# Altium footprint library rookieboard_footprints.PcbLib: 22 footprints (part 1 of 2)
Each footprint in its own frame and in the unit in brackets; x right, y up, seen from the top. Pads: shape width x height; smd on the part's side, far side on the other; paste and mask are expansions set on the pad; w line width, h text height; cw(c..) or ccw(c..) is an arc to the next point about the centre after c.
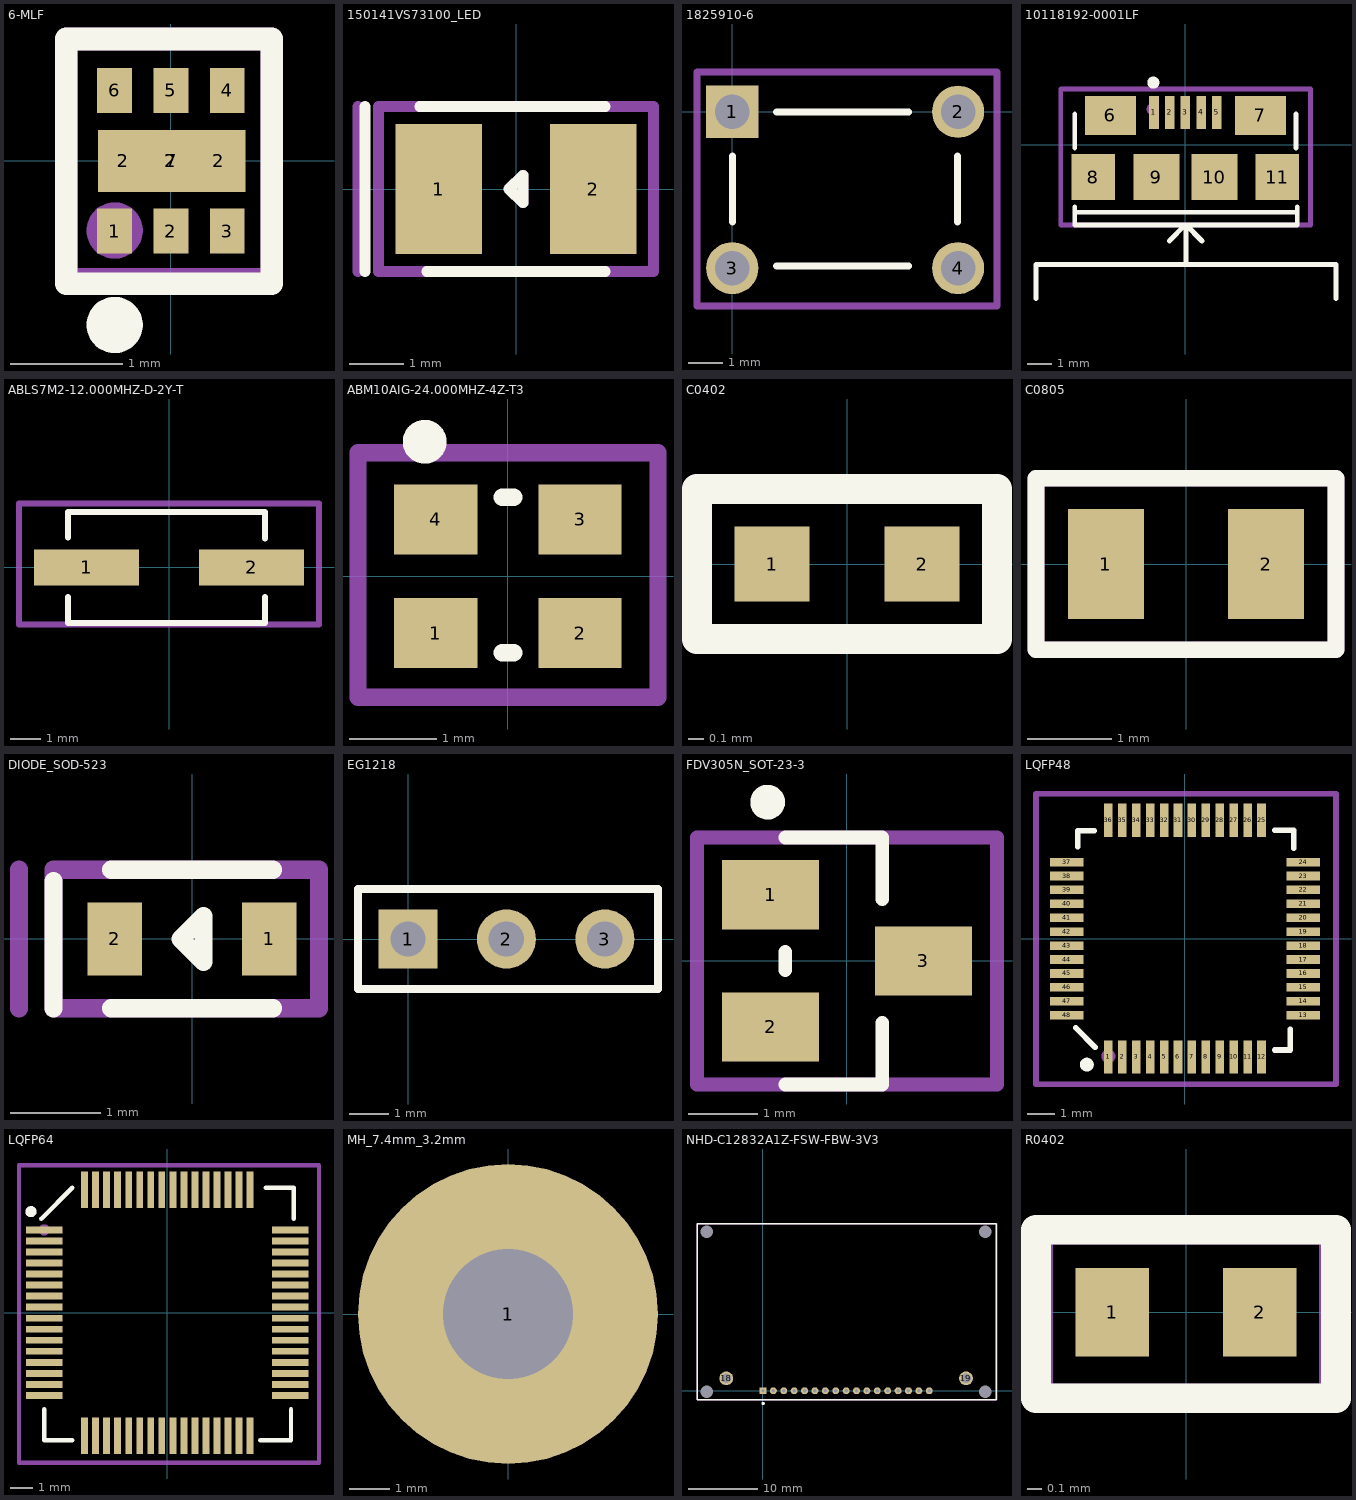
[diagram p0: the footprints below, top view; thin cyan lines are the x and y axes]

## 6-MLF [mm]
pads (10):
  rect 0.31x0.4 smd mask+0.01: 1(-0.5,-0.625) 2(0,-0.625) 4(0.5,0.625) 5(0,0.625) 6(-0.5,0.625)
  rect 0.4x0.5 on Top Paste: 2(-0.425,0) 2(0,0) 2(0.425,0)
  rect 0.31x0.4 smd paste+0 mask+0.01: 3(0.5,-0.625)
  rect 1.31x0.55 smd paste-40 mask+0.01: 7(0.008,0)
Top Overlay:
  circle w0.25: c-0.5,-1.458 r0.125
  lines w0.2: -0.932,-1.092 0.897,-1.092 0.897,1.082 -0.932,1.082 -0.932,-1.092
Mechanical 29:
  circle w0.25: c-0.5,-0.62 r0.125
  lines w0.2: -0.932,1.057 -0.932,-1.051 0.897,-1.051 0.897,1.082 -0.932,1.082
  text ".Designator" at -0.525,-0.061 h0.5

## 150141VS73100_LED [mm]
pads (2):
  rect 1.6x2.4 smd: 1(-1.425,0) 2(1.425,0)
Top Overlay:
  lines w0.2: -2.794,-1.524 -2.794,1.524 ; -1.778,1.524 1.651,1.524 ; -1.651,-1.524 1.651,-1.524 ; -0.127,0 0.127,0.254 0.127,-0.254 -0.127,0
Mechanical 29:
  lines w0.2: -2.921,-1.524 -2.921,1.524 ; -2.54,-1.524 -2.54,1.524 2.54,1.524 2.54,-1.524 -2.54,-1.524 ; -0.127,0 0.127,0.254 0.127,-0.254 -0.127,0
  text ".Designator" at -1.651,-0.508 h1.52

## 1825910-6 [mm]
pads (4):
  rect 1.5x1.5 hole 0.99: 1(0,0)
  round 1.5 hole 0.99: 2(6.5,0) 3(0,-4.5) 4(6.5,-4.5)
Top Overlay:
  lines w0.2: 0,-3.175 0,-1.27 ; 1.27,-4.445 5.08,-4.445 ; 1.27,0 5.08,0 ; 6.477,-3.175 6.477,-1.27
Mechanical 29:
  circle w0.25: c0,0 r0.125
  lines w0.2: -1.016,-5.588 7.62,-5.588 7.62,1.143 -1.016,1.143 -1.016,0.889 -1.016,-5.588
  text ".Designator" at 1.905,-2.921 h1.52

## 10118192-0001LF [mm]
pads (11):
  rect 0.4x1.35 smd mask+0.05: 1(-1.3,1.338) 2(-0.65,1.338) 3(0,1.338) 4(0.65,1.338) 5(1.3,1.338)
  rect 2.1x1.6 smd: 6(-3.1,1.213) 7(3.1,1.213)
  rect 1.8x1.9 smd: 8(-3.8,-1.337) 11(3.8,-1.337)
  rect 1.9x1.9 smd: 9(-1.2,-1.337) 10(1.2,-1.337)
Top Overlay:
  circle w0.25: c-1.325,2.572 r0.125
  lines w0.2: -6.175,-6.35 -6.175,-4.95 0.025,-4.95 ; -4.575,-2.562 -4.575,-2.788 ; -4.575,-0.125 -4.575,1.275 ; -0.662,-3.975 0,-3.313 ; 0.687,-3.975 0.025,-3.313 0.025,-4.95 ; 4.575,-0.125 4.575,1.275 ; 4.625,-2.562 4.625,-2.788 ; 6.225,-6.35 6.225,-4.95 0.025,-4.95 ; -4.575,-2.788 -4.575,-3.312 -1.1,-3.312 4.625,-3.312 4.625,-2.788 ; -4.575,-2.788 4.625,-2.788
Mechanical 29:
  circle w0.25: c-1.35,1.475 r0.125
  lines w0.2: -5.15,-3.312 -5.15,2.3 5.175,2.3 5.175,-3.312 -5.15,-3.312
  text ".Designator" at -1.375,-0.85 h1.52

## ABLS7M2-12.000MHZ-D-2Y-T [mm]
pads (2):
  rect 3.5x1.2 smd: 1(-2.75,0) 2(2.75,0)
Top Overlay:
  lines w0.2: -3.375,-0.991 -3.375,-1.85 3.2,-1.85 3.2,-0.991 ; -3.375,0.991 -3.375,1.85 3.2,1.85 3.2,0.965
Mechanical 29:
  lines w0.2: 5,2.125 5,-1.9 -5,-1.9 -5,2.125 5,2.125 ; 5,2.125 5,2.125
  text ".Designator" at -1.425,-0.45 h1.52

## ABM10AIG-24.000MHZ-4Z-T3 [mm]
pads (4):
  rect 0.95x0.8 smd: 1(-0.825,-0.65) 2(0.825,-0.65) 3(0.825,0.65) 4(-0.825,0.65)
Top Overlay:
  circle w0.25: c-0.952,1.539 r0.125
  lines w0.2: -0.063,-0.874 0.064,-0.874 ; -0.063,0.904 0.064,0.904
Mechanical 29:
  circle w0.25: c-0.827,0.65 r0.125
  lines w0.2: -1.714,-1.382 1.715,-1.382 1.715,1.412 -1.714,1.412 -1.714,-1.382
  text ".Designator" at -0.952,-0.747 h1.2

## C0402 [mm]
pads (2):
  rect 0.5x0.5 smd: 1(-0.5,0) 2(0.5,0)
Top Overlay:
  lines w0.2: -1,-0.5 1,-0.5 1,0.5 -1,0.5 -1,-0.5
Mechanical 29:
  lines w0.2: -1,-0.5 1,-0.5 1,0.5 -1,0.5 -1,-0.5
  text ".Designator" at -0.6,-0.3 h0.52

## C0805 [mm]
pads (2):
  rect 0.9x1.3 smd: 1(-0.95,0) 2(0.95,0)
Top Overlay:
  lines w0.2: -1.778,-1.016 -1.778,1.016 1.778,1.016 1.778,-1.016 -1.778,-1.016
Mechanical 29:
  lines w0.2: -1.778,-1.016 -1.778,1.016 1.778,1.016 1.778,-1.016 -1.778,-1.016
  text ".Designator" at -0.508,-0.254 h0.6

## DIODE_SOD-523 [mm]
pads (2):
  rect 0.6x0.8 smd: 1(0.85,0) 2(-0.85,0)
Top Overlay:
  lines w0.2: -1.524,-0.762 -1.524,0.635 ; -0.889,-0.762 0.889,-0.762 ; -0.889,0.762 0.889,0.762 ; -0.127,0 0.127,0.254 0.127,-0.254 -0.127,0
Mechanical 29:
  lines w0.2: -1.905,-0.762 -1.905,0.762 ; -1.524,-0.762 1.397,-0.762 1.397,0.762 -1.524,0.762 -1.524,-0.762
  text ".Designator" at -0.635,-0.254 h0.5

## EG1218 [mm]
pads (3):
  rect 1.5x1.5 hole 0.9: 1(0,0)
  round 1.5 hole 0.9: 2(2.5,0) 3(5,0)
Top Overlay:
  lines w0.2: -1.27,-1.27 -1.27,1.27 6.35,1.27 6.35,-1.27 -1.27,-1.27
Mechanical 29:
  circle w0.25: c-0.065,0.015 r0.125
  lines w0.2: -1.27,-1.27 6.35,-1.27 6.35,1.27 -1.27,1.27 -1.27,-1.27
  text ".Designator" at 1.397,-0.508 h1.2

## FDV305N_SOT-23-3 [mm]
pads (3):
  rect 1.4x1 smd: 1(-1.1,0.95) 2(-1.1,-0.95) 3(1.1,0)
Top Overlay:
  circle w0.25: c-1.143,2.286 r0.125
  lines w0.2: -0.889,-1.778 0.508,-1.778 0.508,-0.889 ; -0.889,-0.127 -0.889,0.127 ; -0.889,1.778 0.508,1.778 0.508,0.889
Mechanical 29:
  circle w0.25: c-1.143,1.016 r0.125
  lines w0.2: -2.159,-1.778 -2.159,1.778 2.159,1.778 2.159,-1.778 -2.159,-1.778
  text ".Designator" at -0.381,-0.254 h0.7

## LQFP48 [mm]
pads (48):
  rect 0.31x1.2 smd mask+0.03: 1(-2.75,-4.25) 2(-2.25,-4.25) 3(-1.75,-4.25) 4(-1.25,-4.25) 5(-0.75,-4.25) 6(-0.25,-4.25) 7(0.25,-4.25) 8(0.75,-4.25) 9(1.25,-4.25) 10(1.75,-4.25) 11(2.25,-4.25) 12(2.75,-4.25) 25(2.75,4.25) 26(2.25,4.25) 27(1.75,4.25) 28(1.25,4.25) 29(0.75,4.25) 30(0.25,4.25) 31(-0.25,4.25) 32(-0.75,4.25) 33(-1.25,4.25) 34(-1.75,4.25) 35(-2.25,4.25) 36(-2.75,4.25)
  rect 1.2x0.31 smd mask+0.03: 13(4.25,-2.75) 14(4.25,-2.25) 15(4.25,-1.75) 16(4.25,-1.25) 17(4.25,-0.75) 18(4.25,-0.25) 19(4.25,0.25) 20(4.25,0.75) 21(4.25,1.25) 22(4.25,1.75) 23(4.25,2.25) 24(4.25,2.75) 37(-4.25,2.75) 38(-4.25,2.25) 39(-4.25,1.75) 40(-4.25,1.25) 41(-4.25,0.75) 42(-4.25,0.25) 43(-4.25,-0.25) 44(-4.25,-0.75) 45(-4.25,-1.25) 46(-4.25,-1.75) 47(-4.25,-2.25) 48(-4.25,-2.75)
Top Overlay:
  circle w0.25: c-3.525,-4.525 r0.125
  lines w0.2: -3.918,-3.207 -3.226,-3.899 ; -3.85,3.302 -3.85,3.875 -3.251,3.875 ; 3.226,-4 3.775,-4 3.775,-3.251 ; 3.226,3.9 3.9,3.9 3.9,3.251
Mechanical 29:
  circle w0.25: c-2.75,-4.225 r0.125
  lines w0.2: -5.35,5.175 -5.35,-5.225 5.425,-5.225 ; -5.35,5.2 5.425,5.2 5.425,-5.225 ; 5.425,-5.225 5.425,-5.225
  text ".Designator" at -1.825,-0.775 h1.5

## LQFP64 [mm]
pads (64):
  rect 1.65x0.31 smd mask+0.03: 1(-5.575,3.75) 2(-5.575,3.25) 3(-5.575,2.75) 4(-5.575,2.25) 5(-5.575,1.75) 6(-5.575,1.25) 7(-5.575,0.75) 8(-5.575,0.25) 9(-5.575,-0.25) 10(-5.575,-0.75) 11(-5.575,-1.25) 12(-5.575,-1.75) 13(-5.575,-2.25) 14(-5.575,-2.75) 15(-5.575,-3.25) 16(-5.575,-3.75) 33(5.575,-3.75) 34(5.575,-3.25) 35(5.575,-2.75) 36(5.575,-2.25) 37(5.575,-1.75) 38(5.575,-1.25) 39(5.575,-0.75) 40(5.575,-0.25) 41(5.575,0.25) 42(5.575,0.75) 43(5.575,1.25) 44(5.575,1.75) 45(5.575,2.25) 46(5.575,2.75) 47(5.575,3.25) 48(5.575,3.75)
  rect 0.31x1.65 smd mask+0.03: 17(-3.75,-5.575) 18(-3.25,-5.575) 19(-2.75,-5.575) 20(-2.25,-5.575) 21(-1.75,-5.575) 22(-1.25,-5.575) 23(-0.75,-5.575) 24(-0.25,-5.575) 25(0.25,-5.575) 26(0.75,-5.575) 27(1.25,-5.575) 28(1.75,-5.575) 29(2.25,-5.575) 30(2.75,-5.575) 31(3.25,-5.575) 32(3.75,-5.575) 49(3.75,5.575) 50(3.25,5.575) 51(2.75,5.575) 52(2.25,5.575) 53(1.75,5.575) 54(1.25,5.575) 55(0.75,5.575) 56(0.25,5.575) 57(-0.25,5.575) 58(-0.75,5.575) 59(-1.25,5.575) 60(-1.75,5.575) 61(-2.25,5.575) 62(-2.75,5.575) 63(-3.25,5.575) 64(-3.75,5.575)
Top Overlay:
  circle w0.25: c-6.175,4.575 r0.125
  lines w0.2: -5.702,4.258 -4.305,5.655 ; -5.575,-4.378 -5.575,-5.775 -4.305,-5.775 ; 4.204,-5.775 5.601,-5.775 5.601,-4.378 ; 4.458,5.655 5.728,5.655 5.728,4.258
Mechanical 29:
  circle w0.25: c-5.575,3.75 r0.125
  lines w0.2: -6.718,-6.791 6.871,-6.791 6.871,6.671 -6.718,6.671 -6.718,-6.791
  text ".Designator" at -1.765,-0.441 h1.52

## MH_7.4mm_3.2mm [mm]
pads (1):
  round 7.4 hole 3.2: 1(0,0)

## NHD-C12832A1Z-FSW-FBW-3V3 [mm]
pads (23):
  rect 1x1 hole 0.5: 1(0,0)
  round 1 hole 0.5: 2(1.5,0) 3(3,0) 4(4.5,0) 5(6,0) 6(7.5,0) 7(9,0) 8(10.5,0) 9(12,0) 10(13.5,0) 11(15,0) 12(16.5,0) 13(18,0) 14(19.5,0) 15(21,0) 16(22.5,0) 17(24,0)
  round 2 hole 1.4: 18(-5.3,1.8) 19(29.3,1.8)
  round 0 hole 1.8 unplated: 20(-8.1,-0.15) 20(-8.1,22.95) 20(32.1,-0.15) 20(32.1,22.95)
Top Overlay:
  circle w0.25: c0.008,-1.839 r0.125
  lines w0.2: -9.525,-1.27 -9.525,24.13 -8.89,24.13 33.655,24.13 33.655,-1.27 -9.525,-1.27
Mechanical 29:
  circle w0.25: c0,0 r0.125
  lines w0.2: -9.525,-1.27 33.528,-1.27 33.782,-1.27 33.782,24.13 -9.525,24.13 -9.525,-1.27
  text ".Designator" at 5.842,11.303 h3

## R0402 [mm]
pads (2):
  rect 0.5x0.6 smd: 1(-0.5,0) 2(0.5,0)
Top Overlay:
  lines w0.2: -1.016,-0.584 -1.016,0.559 1.016,0.559 1.016,-0.584 -1.016,-0.584
Mechanical 29:
  lines w0.2: -1,-0.584 -1,0.559 1,0.559 1,-0.584 -1,-0.584
  text ".Designator" at -0.6,-0.2 h0.52